# Altium footprint library LGL29K-F2J1-24-Z.PcbLib: 3 footprints
Each footprint in its own frame and in the unit in brackets; x right, y up, seen from the top. Pads: shape width x height; smd on the part's side, far side on the other; paste and mask are expansions set on the pad; w line width, h text height; cw(c..) or ccw(c..) is an arc to the next point about the centre after c.
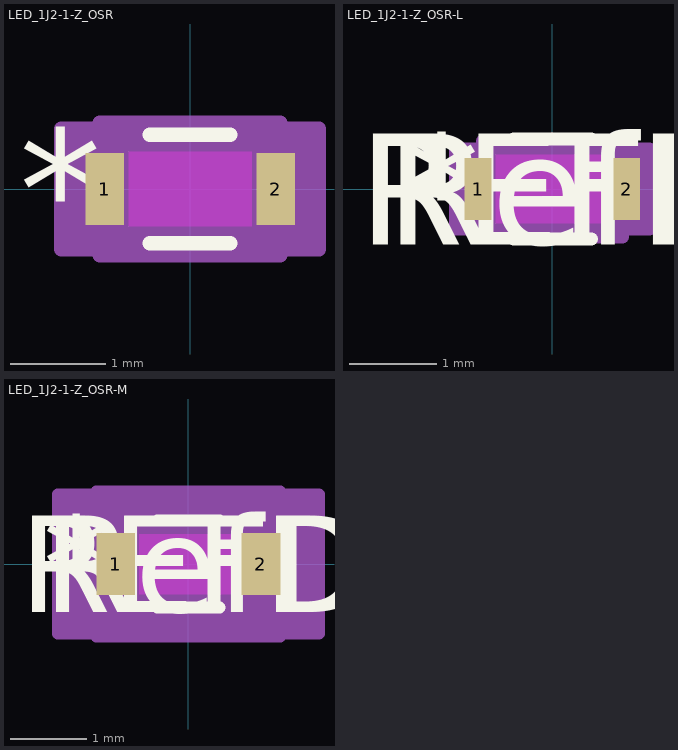
[diagram p0: the footprints below, top view; thin cyan lines are the x and y axes]

## LED_1J2-1-Z_OSR [mil]
pads (2):
  rect 16x30 smd paste+0 mask+0: 1(-35.5,0) 2(35.5,0)
Top Layer keep-out:
  region: -25.5,-15.5 -25.5,15.5 25.5,15.5 25.5,-15.5
Top Overlay:
  lines w6: -16.76,-22.5 16.76,-22.5 ; -16.76,22.5 16.76,22.5
  text "*" at -71,-25 h50
Keep-Out Layer:
  region: -25.5,-15.5 -25.5,15.5 25.5,15.5 25.5,-15.5
Mechanical 13:
  lines w1: -27.5,-8.75 -18.75,-17.5 ; -27.5,8.75 -18.75,17.5 ; -35.5,-15 -27.5,-15 -27.5,15 -35.5,15 -35.5,-15 ; -27.5,-17.5 -27.5,17.5 27.5,17.5 27.5,-17.5 -27.5,-17.5 ; 27.5,-15 35.5,-15 35.5,15 27.5,15 27.5,-15
  text "*" at -30,-25 h50
Mechanical 15:
  region: -37.5,-25 -53.5,-25 -53.5,25 -37.5,25 -37.5,27.5 37.5,27.5 37.5,25 53.5,25 53.5,-25 37.5,-25 37.5,-27.5 -37.5,-27.5
  lines w6: -53.5,-25 -37.5,-25 -37.5,-27.5 37.5,-27.5 37.5,-25 53.5,-25 53.5,25 37.5,25 37.5,27.5 -37.5,27.5 -37.5,25 -53.5,25 -53.5,-25
3D body "LED_1J2-1-Z_OSR.step": height 26.26, standoff 0, extent -35.51,-17.48 35.51,17.48

## LED_1J2-1-Z_OSR-L [mil]
pads (2):
  rect 12x28 smd paste+0 mask+0: 1(-33.5,0) 2(33.5,0)
Top Layer keep-out:
  region: -25.5,-15.5 -25.5,15.5 25.5,15.5 25.5,-15.5
Top Overlay:
  lines w6: -17.53,-22.5 17.53,-22.5 ; -17.53,22.5 17.53,22.5
  text "RefDes" at -75,-25 h50
  text "*" at -67,-25 h50
  text "REFDES" at -87.5,-25 h50
Keep-Out Layer:
  region: -25.5,-15.5 -25.5,15.5 25.5,15.5 25.5,-15.5
Mechanical 13:
  lines w1: -27.5,-8.75 -18.75,-17.5 ; -27.5,8.75 -18.75,17.5 ; -35.5,-15 -27.5,-15 -27.5,15 -35.5,15 -35.5,-15 ; -27.5,-17.5 -27.5,17.5 27.5,17.5 27.5,-17.5 -27.5,-17.5 ; 27.5,-15 35.5,-15 35.5,15 27.5,15 27.5,-15
  text "RefDes2" at -87.5,-25 h50
  text "*" at -30,-25 h50
Mechanical 15:
  region: -31.5,-18 -43.5,-18 -43.5,18 -31.5,18 -31.5,21.5 31.5,21.5 31.5,18 43.5,18 43.5,-18 31.5,-18 31.5,-21.5 -31.5,-21.5
  lines w6: -43.5,-18 -31.5,-18 -31.5,-21.5 31.5,-21.5 31.5,-18 43.5,-18 43.5,18 31.5,18 31.5,21.5 -31.5,21.5 -31.5,18 -43.5,18 -43.5,-18
3D body "LED_1J2-1-Z_OSR.step": height 26.26, standoff 0, extent -35.51,-17.48 35.51,17.48

## LED_1J2-1-Z_OSR-M [mil]
pads (2):
  rect 20x32 smd paste+0 mask+0: 1(-37.5,0) 2(37.5,0)
Top Layer keep-out:
  region: -25.5,-15.5 -25.5,15.5 25.5,15.5 25.5,-15.5
Top Overlay:
  lines w6: -16.13,-22.5 16.13,-22.5 ; -16.13,22.5 16.13,22.5
  text "RefDes" at -75,-25 h50
  text "*" at -75,-25 h50
  text "REFDES" at -87.5,-25 h50
Keep-Out Layer:
  region: -25.5,-15.5 -25.5,15.5 25.5,15.5 25.5,-15.5
Mechanical 13:
  lines w1: -27.5,-8.75 -18.75,-17.5 ; -27.5,8.75 -18.75,17.5 ; -35.5,-15 -27.5,-15 -27.5,15 -35.5,15 -35.5,-15 ; -27.5,-17.5 -27.5,17.5 27.5,17.5 27.5,-17.5 -27.5,-17.5 ; 27.5,-15 35.5,-15 35.5,15 27.5,15 27.5,-15
  text "RefDes2" at -87.5,-25 h50
  text "*" at -30,-25 h50
Mechanical 15:
  region: -47.5,-36 -67.5,-36 -67.5,36 -47.5,36 -47.5,37.5 47.5,37.5 47.5,36 67.5,36 67.5,-36 47.5,-36 47.5,-37.5 -47.5,-37.5
  lines w6: -67.5,-36 -47.5,-36 -47.5,-37.5 47.5,-37.5 47.5,-36 67.5,-36 67.5,36 47.5,36 47.5,37.5 -47.5,37.5 -47.5,36 -67.5,36 -67.5,-36
3D body "LED_1J2-1-Z_OSR.step": height 26.26, standoff 0, extent -35.51,-17.48 35.51,17.48